# Altium footprint library MyLib.PcbLib: 105 footprints (part 6 of 7)
Each footprint in its own frame and in the unit in brackets; x right, y up, seen from the top. Pads: shape width x height; smd on the part's side, far side on the other; paste and mask are expansions set on the pad; w line width, h text height; cw(c..) or ccw(c..) is an arc to the next point about the centre after c.
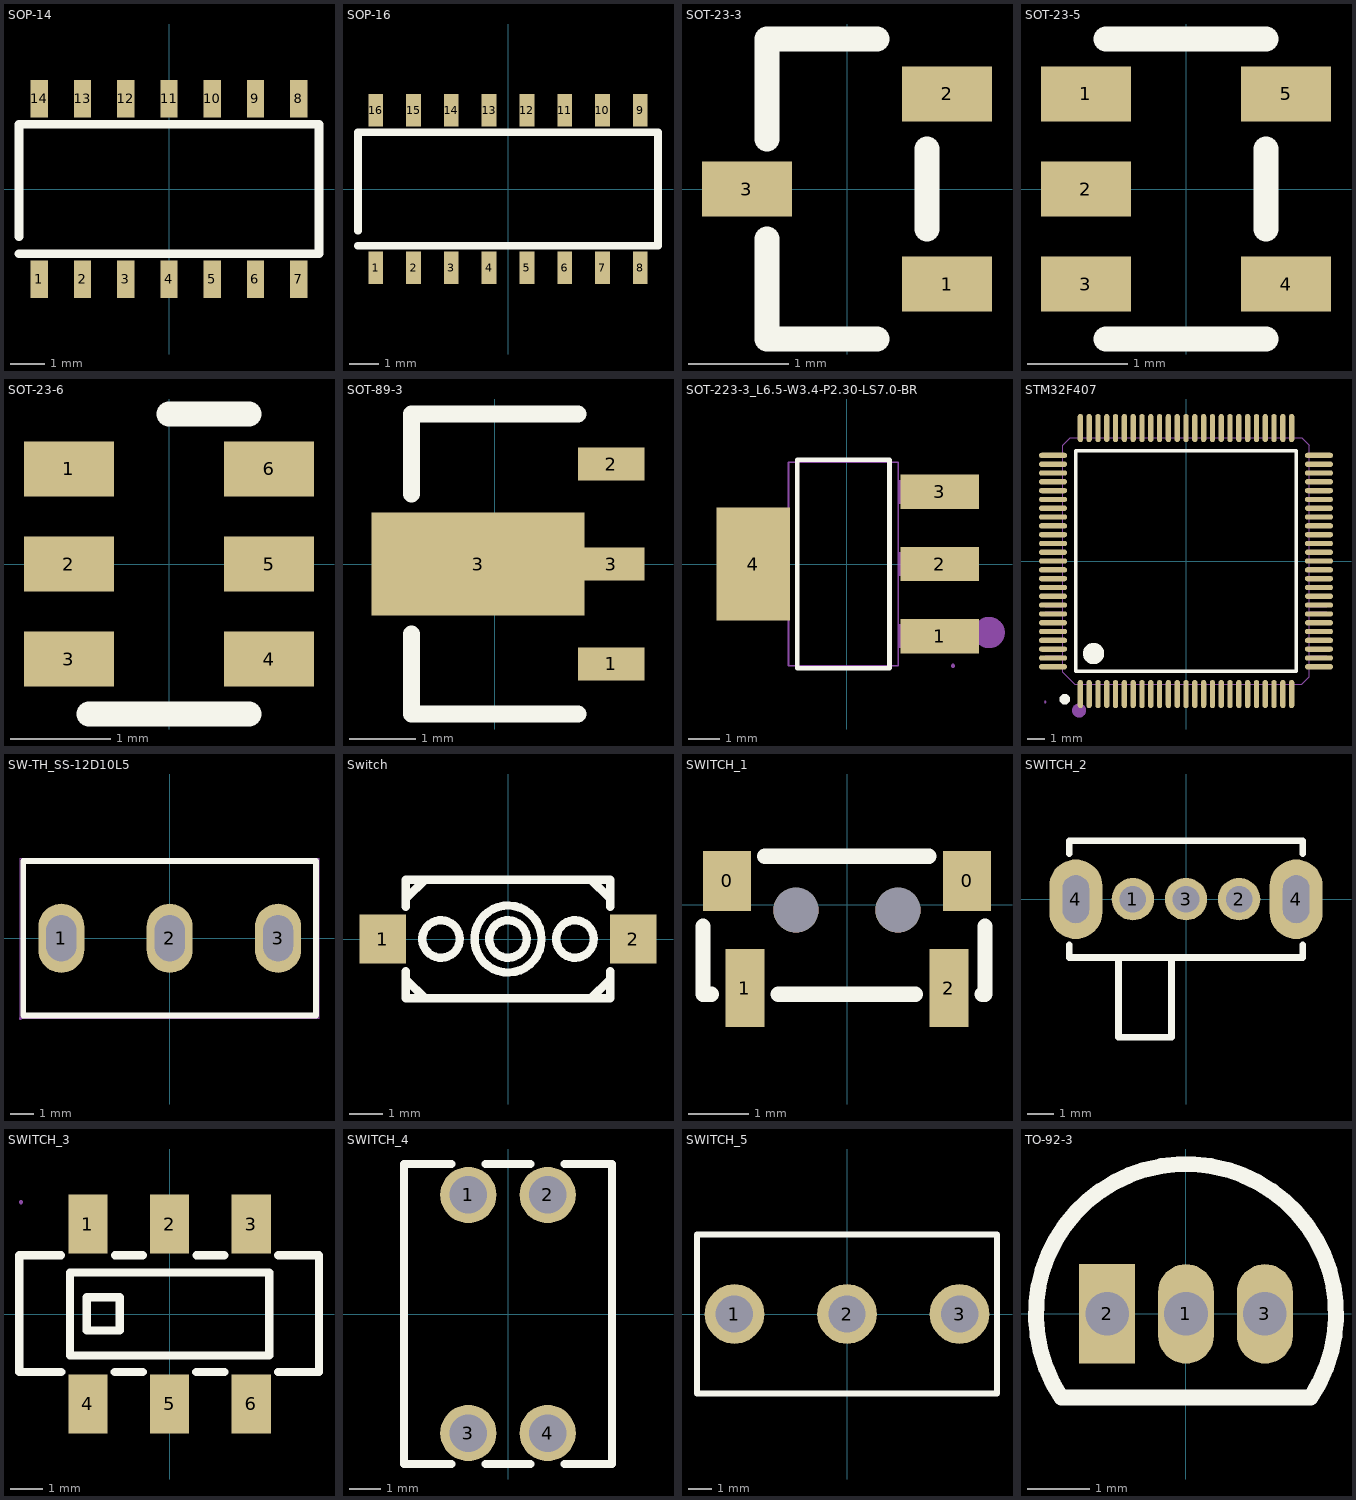
[diagram p5: the footprints below, top view; thin cyan lines are the x and y axes]

## SOP-14 [mm]
pads (14):
  rect 0.5x1.1 smd mask+0.051: 1(-3.81,-2.65) 2(-2.54,-2.65) 3(-1.27,-2.65) 4(0,-2.65) 5(1.27,-2.65) 6(2.54,-2.65) 7(3.81,-2.65) 8(3.81,2.65) 9(2.54,2.65) 10(1.27,2.65) 11(0,2.65) 12(-1.27,2.65) 13(-2.54,2.65) 14(-3.81,2.65)
Top Overlay:
  lines w0.254: -4.405,-1.9 4.405,-1.9 4.405,1.9 -4.405,1.9 -4.405,-1.4

## SOP-16 [mm]
pads (16):
  rect 0.5x1.1 smd mask+0.051: 1(-4.445,-2.65) 2(-3.175,-2.65) 3(-1.905,-2.65) 4(-0.635,-2.65) 5(0.635,-2.65) 6(1.905,-2.65) 7(3.175,-2.65) 8(4.445,-2.65) 9(4.445,2.65) 10(3.175,2.65) 11(1.905,2.65) 12(0.635,2.65) 13(-0.635,2.65) 14(-1.905,2.65) 15(-3.175,2.65) 16(-4.445,2.65)
Top Overlay:
  lines w0.254: -5.04,-1.9 5.04,-1.9 5.04,1.9 -5.04,1.9 -5.04,-1.4

## SOT-23-3 [mm]
pads (3):
  rect 0.9x0.55 smd mask+0.051: 1(1,-0.95) 2(1,0.95) 3(-1,0)
Top Overlay:
  lines w0.254: -0.8,-0.5 -0.8,-1.5 0.3,-1.5 ; -0.8,0.5 -0.8,1.5 0.3,1.5 ; 0.8,-0.4 0.8,0.4

## SOT-23-5 [mm]
pads (5):
  rect 0.9x0.55 smd mask+0.051: 1(-1,0.95) 2(-1,0) 3(-1,-0.95) 4(1,-0.95) 5(1,0.95)
Top Overlay:
  lines w0.254: -0.8,-1.5 0.8,-1.5 ; -0.8,1.5 0.8,1.5 ; 0.8,-0.4 0.8,0.4

## SOT-23-6 [mm]
pads (6):
  rect 0.9x0.55 smd mask+0.051: 1(-1,0.95) 2(-1,0) 3(-1,-0.95) 4(1,-0.95) 5(1,0) 6(1,0.95)
Top Overlay:
  lines w0.254: -0.8,-1.5 0.8,-1.5 ; 0,1.5 0.8,1.5

## SOT-89-3 [mm]
pads (4):
  rect 1x0.5 smd mask+0.051: 1(1.75,-1.5) 2(1.75,1.5) 3(1.75,0)
  rect 3.2x1.55 smd mask+0.051: 3(-0.25,0)
Top Overlay:
  lines w0.254: -1.25,-1.05 -1.25,-2.25 1.25,-2.25 ; -1.25,1.05 -1.25,2.25 1.25,2.25

## SOT-223-3_L6.5-W3.4-P2.30-LS7.0-BR [mm]
pads (4):
  rect 2.5x1.1 smd: 1(2.97,-2.3) 2(2.97,0) 3(2.97,2.3)
  rect 2.34x3.6 smd: 4(-2.97,0)
Top Overlay:
  lines w0.152: -1.571,-3.326 -1.571,3.326 1.371,3.326 1.371,-3.326 -1.571,-3.326
Mechanical 6:
  circle w0.5: c4.552,-2.188 r0.25
Mechanical 15:
  region: 3.46,-3.25 3.46,-3.225 3.425,-3.19 3.375,-3.19 3.34,-3.225 3.34,-3.25 3.34,-3.275 3.375,-3.31 3.425,-3.31 3.46,-3.275
  region: 1.64,1.925 1.64,2.675 2.66,2.675 2.66,1.925
  region: 2.65,1.925 2.65,2.675 3.4,2.675 3.4,1.925
  region: 1.64,-0.375 1.64,0.375 2.66,0.375 2.66,-0.375
  region: 2.65,-0.375 2.65,0.375 3.4,0.375 3.4,-0.375
  region: 1.64,-2.675 1.64,-1.925 2.66,-1.925 2.66,-2.675
  region: 2.65,-2.675 2.65,-1.925 3.4,-1.925 3.4,-2.675
  region: -2.86,-1.5 -2.86,1.5 -1.84,1.5 -1.84,-1.5
  region: -3.6,-1.5 -3.6,1.5 -2.85,1.5 -2.85,-1.5
  lines w0.051: -1.85,-3.25 -1.85,3.25 1.65,3.25 1.65,-3.25 -1.85,-3.25

## STM32F407 [mm]
pads (100):
  oval 0.3x1.6 smd: 1(-6,-7.55) 2(-5.5,-7.55) 3(-5,-7.55) 4(-4.5,-7.55) 5(-4,-7.55) 6(-3.5,-7.55) 7(-3,-7.55) 8(-2.5,-7.55) 9(-2,-7.55) 10(-1.5,-7.55) 11(-1,-7.55) 12(-0.5,-7.55) 13(0,-7.55) 14(0.5,-7.55) 15(1,-7.55) 16(1.5,-7.55) 17(2,-7.55) 18(2.5,-7.55) 19(3,-7.55) 20(3.5,-7.55) 21(4,-7.55) 22(4.5,-7.55) 23(5,-7.55) 24(5.5,-7.55) 25(6,-7.55) 51(6,7.55) 52(5.5,7.55) 53(5,7.55) 54(4.5,7.55) 55(4,7.55) 56(3.5,7.55) 57(3,7.55) 58(2.5,7.55) 59(2,7.55) 60(1.5,7.55) 61(1,7.55) 62(0.5,7.55) 63(0,7.55) 64(-0.5,7.55) 65(-1,7.55) 66(-1.5,7.55) 67(-2,7.55) 68(-2.5,7.55) 69(-3,7.55) 70(-3.5,7.55) 71(-4,7.55) 72(-4.5,7.55) 73(-5,7.55) 74(-5.5,7.55) 75(-6,7.55)
  oval 1.6x0.3 smd: 26(7.55,-6) 27(7.55,-5.5) 28(7.55,-5) 29(7.55,-4.5) 30(7.55,-4) 31(7.55,-3.5) 32(7.55,-3) 33(7.55,-2.5) 34(7.55,-2) 35(7.55,-1.5) 36(7.55,-1) 37(7.55,-0.5) 38(7.55,0) 39(7.55,0.5) 40(7.55,1) 41(7.55,1.5) 42(7.55,2) 43(7.55,2.5) 44(7.55,3) 45(7.55,3.5) 46(7.55,4) 47(7.55,4.5) 48(7.55,5) 49(7.55,5.5) 50(7.55,6) 76(-7.55,6) 77(-7.55,5.5) 78(-7.55,5) 79(-7.55,4.5) 80(-7.55,4) 81(-7.55,3.5) 82(-7.55,3) 83(-7.55,2.5) 84(-7.55,2) 85(-7.55,1.5) 86(-7.55,1) 87(-7.55,0.5) 88(-7.55,0) 89(-7.55,-0.5) 90(-7.55,-1) 91(-7.55,-1.5) 92(-7.55,-2) 93(-7.55,-2.5) 94(-7.55,-3) 95(-7.55,-3.5) 96(-7.55,-4) 97(-7.55,-4.5) 98(-7.55,-5) 99(-7.55,-5.5) 100(-7.55,-6)
Top Overlay:
  lines w0.2: -6.25,-6.25 -6.25,6.25 6.25,6.25 6.25,-6.25 -6.25,-6.25
  lines w0.3: -6.883,-7.696 ccw(c-6.882,-7.846) -6.882,-7.996 ccw(c-6.882,-7.846) -6.881,-7.696
  lines w0.6: -5.25,-4.95 ccw(c-5.248,-5.25) -5.248,-5.55 ccw(c-5.248,-5.25) -5.245,-4.95
Mechanical 6:
  circle w0.4: c-6.071,-8.484 r0.2
Mechanical 15:
  drawing of 209 lines, arcs and shapes, not listed

## SW-TH_SS-12D10L5 [mm]
pads (3):
  oval 2x3 hole 1.3 slot 2 at 90 deg: 1(-4.7,0) 2(0,0) 3(4.7,0)
Top Overlay:
  lines w0.254: -6.35,-3.35 6.35,-3.35 6.35,3.35 -6.35,3.35 -6.35,-3.35
Mechanical 15:
  region: -6.417,-3.477 -6.417,-3.452 -6.452,-3.417 -6.502,-3.417 -6.537,-3.452 -6.537,-3.477 -6.537,-3.502 -6.502,-3.537 -6.452,-3.537 -6.417,-3.502 -6.417,-3.477
  region: 4.3,0.65 5.1,0.65 5.1,-0.65 4.3,-0.65
  region: -0.4,0.65 0.4,0.65 0.4,-0.65 -0.4,-0.65
  region: -5.1,0.65 -4.3,0.65 -4.3,-0.65 -5.1,-0.65
  lines w0.051: -6.477,-3.477 6.477,-3.477 6.477,3.477 -6.477,3.477 -6.477,-3.477

## Switch [mm]
pads (2):
  rect 1.4x1.5 smd mask+0.051: 1(-3.81,0.001) 2(3.79,0.001)
Top Overlay:
  circle w0.254: c-2.042,0.001 r0.568
  circle w0.254: c2.022,0.001 r0.568
  circle w0.254: c-0.01,0.001 r1.016
  circle w0.254: c-0.01,0.001 r0.568
  lines w0.254: -3.11,-0.981 -3.11,-1.799 3.09,-1.799 3.09,-0.981 ; -3.11,0.982 -3.11,1.801 3.09,1.801 3.09,0.982 ; -3.058,-1.269 -2.55,-1.777 ; -3.058,1.271 -2.55,1.779 ; 2.53,-1.777 3.038,-1.269 ; 2.53,1.779 3.038,1.271

## SWITCH_1 [mm]
pads (6):
  rect 0.8x1 smd: 0(-2,0.4) 0(2,0.4)
  rect 0.65x1.3 smd: 1(-1.701,-1.388) 2(1.699,-1.388)
  round 0.75 hole 0.75 unplated: ""(-0.851,-0.089) ""(0.849,-0.089)
Top Overlay:
  lines w0.254: -2.401,-0.358 -2.401,-1.488 ; -1.371,0.811 -1.001,0.811 0.999,0.811 1.369,0.811 ; -1.145,-1.488 1.143,-1.488 ; 2.255,-1.488 2.299,-1.488 2.299,-0.358 ; -2.401,-1.488 -2.257,-1.488 -2.401,-1.488
Mechanical 15:
  circle w0.25: c0.849,-0.089 r0.125
  circle w0.25: c-0.851,-0.089 r0.125

## SWITCH_2 [mil]
pads (5):
  round 63 hole 39.4 mask+2: 1(-78.7,0) 2(78.7,0) 3(0,0)
  oval 78.7x118.1 hole 39.4 slot 70.9 at 90 deg mask+2: 4(-163.4,0) 4(163.4,0)
Top Overlay:
  lines w10: -173.2,-67.5 -173.2,-86.6 173.2,-86.6 173.2,-67.5 ; -173.2,67.5 -173.2,86.6 173.2,86.6 173.2,67.5 ; -100.1,-86.6 -100.1,-204.7 -21.4,-204.7 -21.4,-86.6
Mechanical 15:
  region: -147.6,15.7 -147.6,-15.7 -179.1,-15.7 -179.1,15.7
  region: 179.1,15.7 179.1,-15.7 147.6,-15.7 147.6,15.7
  region: 15.7,0 15.7,3.12 13.31,8.89 8.89,13.31 3.12,15.7 -3.12,15.7 -8.89,13.31 -13.31,8.89 -15.7,3.12 -15.7,0 -15.7,-3.12 -13.31,-8.89 -8.89,-13.31 -3.12,-15.7 3.12,-15.7 8.89,-13.31 13.31,-8.89 15.7,-3.12
  region: 94.4,0 94.4,3.12 92.01,8.89 87.59,13.31 81.82,15.7 75.58,15.7 69.81,13.31 65.39,8.89 63,3.12 63,0 63,-3.12 65.39,-8.89 69.81,-13.31 75.58,-15.7 81.82,-15.7 87.59,-13.31 92.01,-8.89 94.4,-3.12
  region: -63,0 -63,3.12 -65.39,8.89 -69.81,13.31 -75.58,15.7 -81.82,15.7 -87.59,13.31 -92.01,8.89 -94.4,3.12 -94.4,0 -94.4,-3.12 -92.01,-8.89 -87.59,-13.31 -81.82,-15.7 -75.58,-15.7 -69.81,-13.31 -65.39,-8.89 -63,-3.12

## SWITCH_3 [mm]
pads (6):
  rect 1.2x1.8 smd: 1(-2.5,2.75) 2(0,2.75) 3(2.5,2.75) 4(-2.5,-2.75) 5(0,-2.75) 6(2.5,-2.75)
Top Overlay:
  lines w0.254: -3.326,1.8 -4.6,1.8 -4.6,-1.778 -3.319,-1.778 ; -1.681,-1.778 -0.819,-1.778 ; -1.674,1.8 -0.826,1.8 ; 0.819,-1.778 1.681,-1.778 ; 0.826,1.8 1.674,1.8 ; 3.319,-1.778 4.572,-1.778 4.572,1.8 3.326,1.8 ; -3.048,-1.27 3.048,-1.27 3.048,1.27 -3.048,1.27 -3.048,-1.27 ; -2.54,-0.508 -1.524,-0.508 -1.524,0.508 -2.54,0.508 -2.54,-0.508
Mechanical 15:
  region: -4.49,3.425 -4.49,3.45 -4.525,3.485 -4.575,3.485 -4.61,3.45 -4.61,3.425 -4.61,3.4 -4.575,3.365 -4.525,3.365 -4.49,3.4

## SWITCH_4 [mm]
pads (4):
  round 1.8 hole 1.2 mask+0.051: 1(-1.27,3.81) 2(1.27,3.81) 3(-1.27,-3.81) 4(1.27,-3.81)
Top Overlay:
  lines w0.254: -1.814,-4.8 -3.33,-4.8 -3.33,4.8 -1.814,4.8 ; -0.726,-4.8 0.726,-4.8 ; -0.726,4.8 0.726,4.8 ; 1.814,-4.8 3.33,-4.8 3.33,4.8 1.814,4.8
Mechanical 15:
  region: -0.77,-3.81 -0.77,-3.711 -0.846,-3.527 -0.987,-3.386 -1.171,-3.31 -1.369,-3.31 -1.553,-3.386 -1.694,-3.527 -1.77,-3.711 -1.77,-3.81 -1.77,-3.909 -1.694,-4.093 -1.553,-4.234 -1.369,-4.31 -1.171,-4.31 -0.987,-4.234 -0.846,-4.093 -0.77,-3.909
  region: 1.77,-3.81 1.77,-3.711 1.694,-3.527 1.553,-3.386 1.369,-3.31 1.171,-3.31 0.987,-3.386 0.846,-3.527 0.77,-3.711 0.77,-3.81 0.77,-3.909 0.846,-4.093 0.987,-4.234 1.171,-4.31 1.369,-4.31 1.553,-4.234 1.694,-4.093 1.77,-3.909
  region: -0.77,3.81 -0.77,3.909 -0.846,4.093 -0.987,4.234 -1.171,4.31 -1.369,4.31 -1.553,4.234 -1.694,4.093 -1.77,3.909 -1.77,3.81 -1.77,3.711 -1.694,3.527 -1.553,3.386 -1.369,3.31 -1.171,3.31 -0.987,3.386 -0.846,3.527 -0.77,3.711
  region: 1.77,3.81 1.77,3.909 1.694,4.093 1.553,4.234 1.369,4.31 1.171,4.31 0.987,4.234 0.846,4.093 0.77,3.909 0.77,3.81 0.77,3.711 0.846,3.527 0.987,3.386 1.171,3.31 1.369,3.31 1.553,3.386 1.694,3.527 1.77,3.711

## SWITCH_5 [mm]
pads (3):
  round 2.54 hole 1.6: 1(-4.8,0) 2(0,0) 3(4.8,0)
Top Overlay:
  lines w0.254: -6.4,-3.4 -6.4,3.4 6.4,3.4 6.4,-3.4 -6.4,-3.4

## TO-92-3 [mm]
pads (3):
  oval 0.9x1.6 hole 0.7 mask+0.051: 1(0,0) 3(1.27,0)
  rect 0.9x1.6 hole 0.7 mask+0.051: 2(-1.27,0)
Top Overlay:
  lines w0.254: -2.005,-1.346 cw(c0,-0.003) 2.004,-1.346 -2.005,-1.346